# EAGLE library part EPC1005 (library NMR-relaxometry)
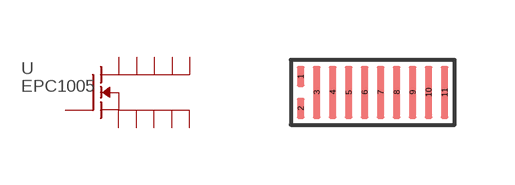
[diagram p4: symbol with the pads of 11-LGA; footprint 11-LGA]

Designator prefix -

## EPC1005  [11-LGA]
1  G  pas
2  S1  pas
3  D1  pas
4  S2  pas
5  D2  pas
6  S3  pas
7  D3  pas
8  S4  pas
9  D4  pas
10  S5  pas
11  D5  pas

## Footprint 11-LGA (pad centres in mm)
smd 0.2 x 0.53: 1 -0.6,0.401; 2 -0.6,-0.401
smd 0.2 x 1.33: 3 -0.2,0; 4 0.2,0; 5 0.6,0; 6 1,0; 7 1.4,0; 8 1.8,0; 9 2.2,0; 10 2.6,0; 11 3,0